# EAGLE library part OPA4350 (library ICs)
The OPA350 series rail-to-rail CMOS operational amplifiers are optimized for low voltage, single-supply operation. Rail-to-rail input/output, low noise (5nV/√Hz), and high speed operation (38MHz, 22V/μs) make them ideal for driving sampling Analog-to-Digital (A/D) converters. They are also well suited for cell phone PA control loops and video processing (75Ω drive capability) as well as audio and general purpose applications. Single, dual, and quad versions have identical specifications for maximum design flexibility. The OPA350 series operates on a single supply as low as 2.5V with an input common-mode voltage range that extends 300mV below ground and 300mV above the positive supply. Output voltage swing is to within 10mV of the supply rails with a 10kΩ load. Dual and quad designs feature completely independent circuitry for lowest crosstalk and freedom from interaction. The single (OPA350) and dual (OPA2350) come in the miniature MSOP-8 surface mount, SO-8 surface mount, and DIP-8 packages. The quad (OPA4350) packages are the space-saving SSOP-16 surface mount and SO-14 surface mount. All are specified from −40°C to +85°C and operate from −55°C to +150°C
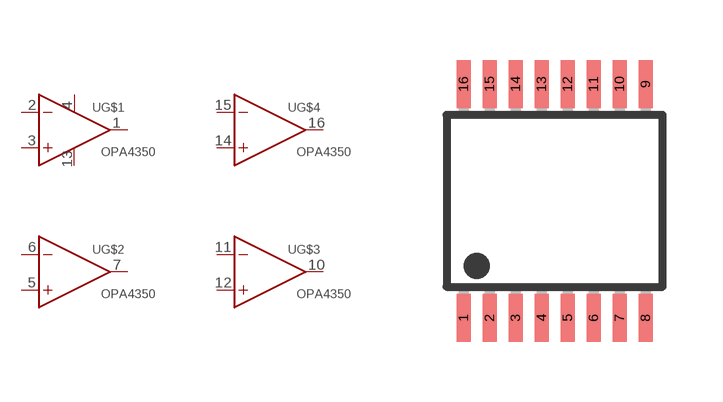
[diagram p2: symbol with the pads of TSSOP16; footprint TSSOP16]

Designator prefix -; gates G$1=STDOPAMP G$2=STDOPAMP G$3=STDOPAMP G$4=STDOPAMP G$5=PWR+-

## OPA4350  [TSSOP16]
1  G$1:OUT  out
2  G$1:IN-  in
3  G$1:IN+  in
4  G$5:V+  pwr
5  G$2:IN+  in
6  G$2:IN-  in
7  G$2:OUT  out
10  G$3:OUT  out
11  G$3:IN-  in
12  G$3:IN+  in
13  G$5:V-  pwr
14  G$4:IN+  in
15  G$4:IN-  in
16  G$4:OUT  out

## Footprint TSSOP16 (pad centres in mm)
PW (R-PDSO-G8) Source: http://focus.ti.com/lit/ds/symlink/ads1271.pdf
smd 0.35 x 1.2: 1 -2.275,-2.925; 2 -1.625,-2.925; 3 -0.975,-2.925; 4 -0.325,-2.925; 5 0.325,-2.925; 6 0.975,-2.925; 7 1.625,-2.925; 8 2.275,-2.925; 9 2.275,2.925; 10 1.625,2.925; 11 0.975,2.925; 12 0.325,2.925; 13 -0.325,2.925; 14 -0.975,2.925; 15 -1.625,2.925; 16 -2.275,2.925